# Altium footprint library Robot_2020.PcbLib: 89 footprints (part 5 of 6)
Each footprint in its own frame and in the unit in brackets; x right, y up, seen from the top. Pads: shape width x height; smd on the part's side, far side on the other; paste and mask are expansions set on the pad; w line width, h text height; cw(c..) or ccw(c..) is an arc to the next point about the centre after c.
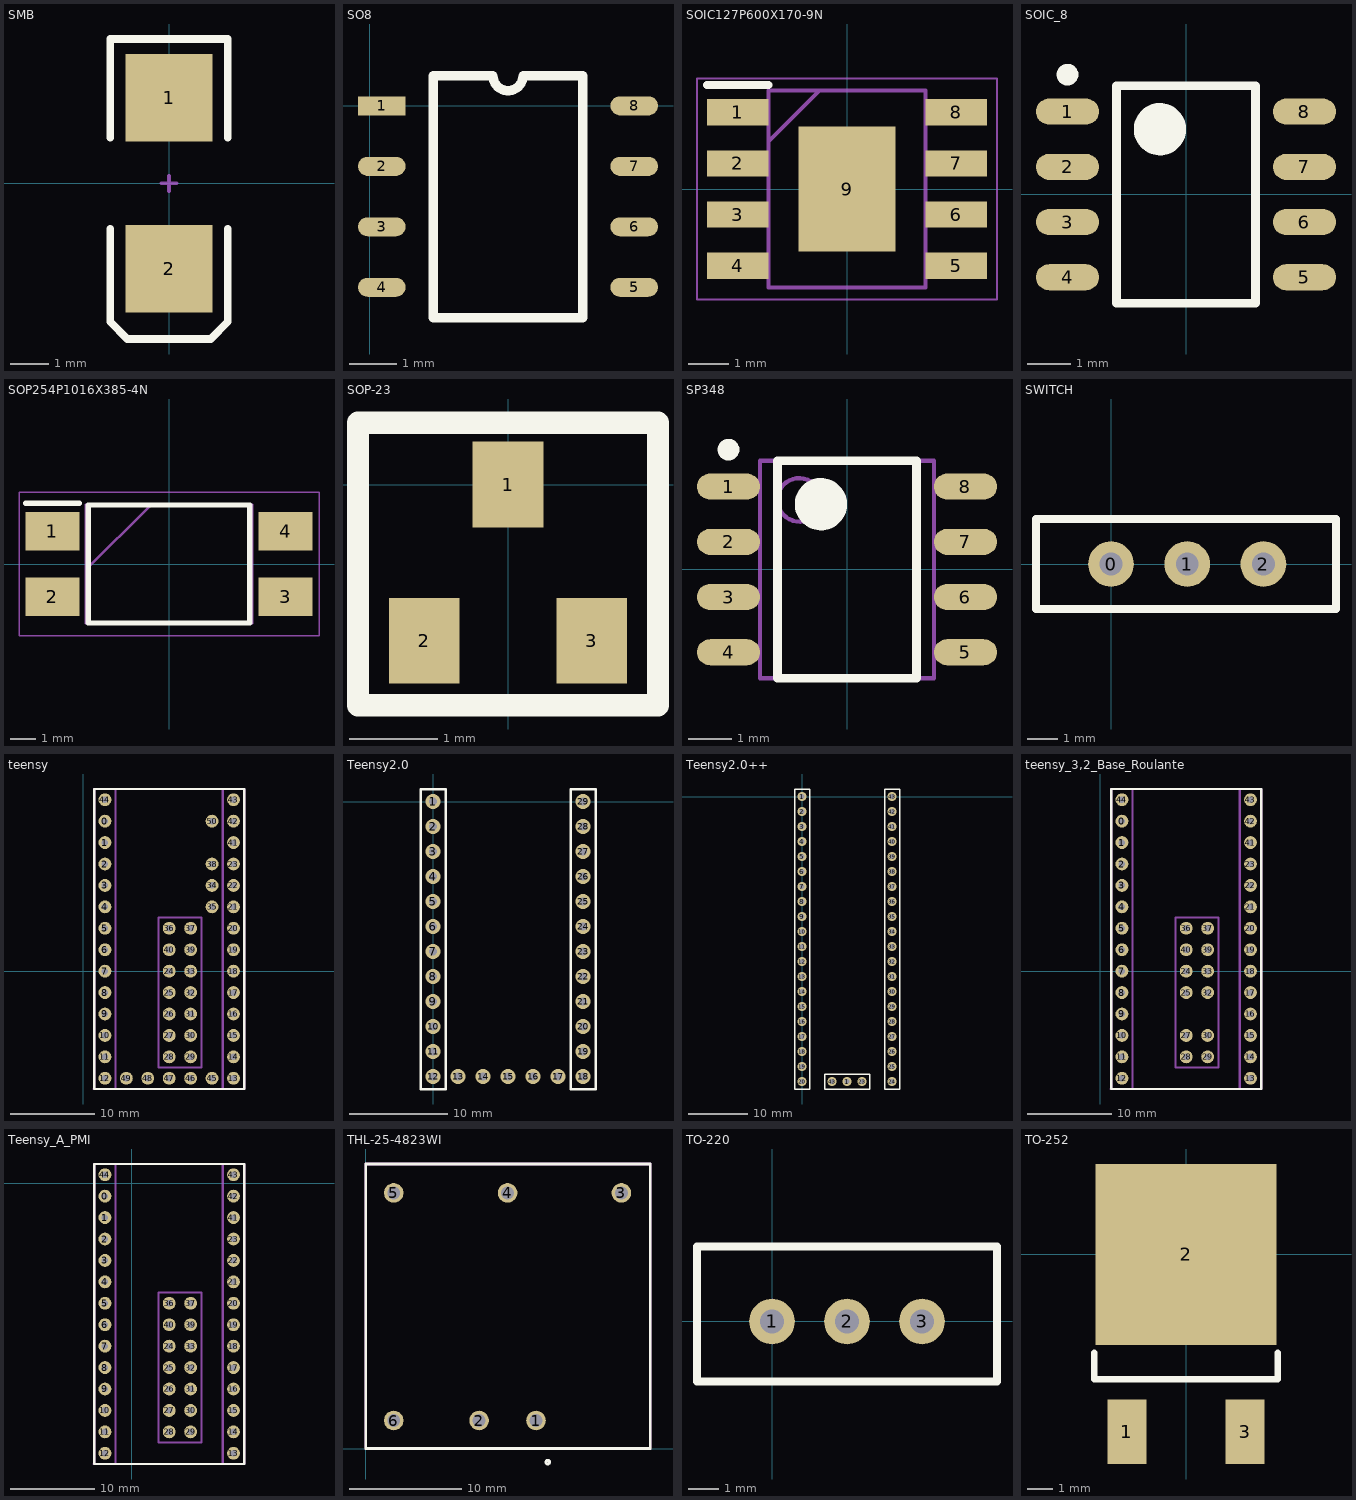
[diagram p4: the footprints below, top view; thin cyan lines are the x and y axes]

## SMB [mm] "SMB Didoe"
pads (2):
  rect 2.3x2.3 smd: 1(0,2.25) 2(0,-2.25)
Top Overlay:
  lines w0.2: -1.55,-1.2 -1.55,-3.65 -1.1,-4.1 1.1,-4.1 1.55,-3.65 1.55,-1.2 ; -1.55,1.2 -1.55,3.8 1.55,3.8 1.55,1.2
Mechanical 1:
  lines w0.1: -0.2,0 0.2,0 ; 0,-0.2 0,0.2
3D body "SMB.step": height 2.2, standoff 0, extent -1.835,-2.673 1.785,2.622

## SO8 [mm]
pads (8):
  rect 1x0.4 smd: 1(0.25,0)
  oval 1x0.4 smd: 2(0.25,-1.27) 3(0.25,-2.54) 4(0.25,-3.81) 5(5.55,-3.81) 6(5.55,-2.54) 7(5.55,-1.27) 8(5.55,0)
Top Overlay:
  lines w0.2: 1.335,-4.445 1.335,0.635 2.582,0.635 ccw(c2.9,0.635) 3.217,0.635 4.465,0.635 4.465,-4.445 1.335,-4.445

## SOIC127P600X170-9N [mm]
pads (9):
  rect 1.525x0.65 smd: 1(-2.712,1.905) 2(-2.712,0.635) 3(-2.712,-0.635) 4(-2.712,-1.905) 5(2.712,-1.905) 6(2.712,-0.635) 7(2.712,0.635) 8(2.712,1.905)
  rect 2.4x3.1 smd: 9(0,0)
Top Overlay:
  lines w0.2: -3.475,2.58 -1.95,2.58
Mechanical 13:
  lines w0.1: -1.95,1.18 -0.68,2.45 ; -1.95,-2.45 -1.95,2.45 1.95,2.45 1.95,-2.45 -1.95,-2.45
Mechanical 15:
  lines w0.05: -3.725,-2.75 -3.725,2.75 3.725,2.75 3.725,-2.75 -3.725,-2.75
3D body "DRV8871DDA.stp": height 1.57, standoff 0, extent -3,-2.45 3,2.45

## SOIC_8 [mm] "SOIC, 8-Leads, Body 4,90x3,90mm, Pitch 1,27mm, IPC Medium Density"
height 1.75
pads (8):
  oval 1.45x0.6 smd: 1(-2.725,1.905) 2(-2.725,0.635) 3(-2.725,-0.635) 4(-2.725,-1.905) 5(2.725,-1.905) 6(2.725,-0.635) 7(2.725,0.635) 8(2.725,1.905)
Top Overlay:
  circle w0.25: c-2.725,2.755 r0.125
  circle w0.6: c-0.6,1.5 r0.3
  lines w0.2: -1.6,-2.5 -1.6,2.5 1.6,2.5 1.6,-2.5 -1.6,-2.5
3D body: height 1.75, standoff 0.1, extent -2,-2.5 2,2.5

## SOP254P1016X385-4N [mm]
pads (4):
  rect 2.1x1.5 smd: 1(-4.55,1.27) 2(-4.55,-1.27) 3(4.55,-1.27) 4(4.55,1.27)
Top Overlay:
  lines w0.2: -5.6,2.37 -3.5,2.37 ; -3.15,-2.3 -3.15,2.3 3.15,2.3 3.15,-2.3 -3.15,-2.3
Mechanical 13:
  lines w0.1: -3.25,-0.24 -0.71,2.3 ; -3.25,-2.3 -3.25,2.3 3.25,2.3 3.25,-2.3 -3.25,-2.3
Mechanical 15:
  lines w0.05: -5.85,-2.8 -5.85,2.8 5.85,2.8 5.85,-2.8 -5.85,-2.8
3D body "FOD817S.stp": height 3.85, standoff 0, extent -5.08,-2.3 5.08,2.3

## SOP-23 [mm]
pads (3):
  rect 0.802x0.972 smd: 1(0,0) 2(-0.95,-1.77) 3(0.95,-1.77)
Top Overlay:
  lines w0.254: -1.7,-2.5 1.7,-2.5 1.7,0.7 -0.2,0.7 -1.7,0.7 -1.7,-2.5

## SP348 [mm] "SOIC, SP348 Transceiver"
height 1.75
pads (8):
  oval 1.45x0.6 smd: 1(-2.725,1.905) 2(-2.725,0.635) 3(-2.725,-0.635) 4(-2.725,-1.905) 5(2.725,-1.905) 6(2.725,-0.635) 7(2.725,0.635) 8(2.725,1.905)
Top Overlay:
  circle w0.6: c-0.6,1.5 r0.3
  circle w0.25: c-2.725,2.755 r0.125
  lines w0.2: -1.6,-2.5 1.6,-2.5 1.6,2.5 -1.6,2.5 -1.6,-2.5
Mechanical 13:
  circle w0.1: c-1.1,1.6 r0.5
  lines w0.1: -2,-2.5 2,-2.5 2,2.5 -2,2.5 -2,-2.5
3D body: height 1.75, standoff 0.1, extent -2,-2.5 2,2.5

## SWITCH [mil] "2 pos switch,  09.03290.01"
height 314.96
pads (3):
  round 60 hole 30: 0(0,0) 1(100,0) 2(200,0)
Top Overlay:
  lines w10: -98.43,-59.06 -98.43,59.06 295.28,59.06 295.28,-59.06 -98.43,-59.06
3D body: height 291.34, standoff 208.66, extent 0,-59.06 78.74,59.06
3D body: height 177.17, standoff 0, extent -98.43,-59.06 295.28,59.06
3D body: height 208.66, standoff 177.17, extent -98.43,-59.06 177.17,59.06

## teensy [mil] "Teensy 3.2"
pads (51):
  round 60 hole 30: 0(100,700) 1(100,600) 2(100,500) 3(100,400) 4(100,300) 5(100,200) 6(100,100) 7(100,0) 8(100,-100) 9(100,-200) 10(100,-300) 11(100,-400) 12(100,-500) 13(700,-500) 14(700,-400) 15(700,-300) 16(700,-200) 17(700,-100) 18(700,0) 19(700,100) 20(700,200) 21(700,300) 22(700,400) 23(700,500) 24(400,0) 25(400,-100) 26(400,-200) 27(400,-300) 28(400,-400) 29(500,-400) 30(500,-300) 31(500,-200) 32(500,-100) 33(500,0) 34(600,400) 35(600,300) 36(400,200) 37(500,200) 38(600,500) 39(500,100) 40(400,100) 41(700,600) 42(700,700) 43(700,800) 44(100,800) 45(600,-500) 46(500,-500) 47(400,-500) 48(300,-500) 49(200,-500) 50(600,700)
Top Overlay:
  lines w10: 50,-550 50,850 750,850 750,-550 50,-550
Mechanical 1:
  lines w10: 48.14,-550 50,-548.14 50,850 150,850 150,-550 48.14,-550 ; 350,-450 350,250 550,250 550,-450 350,-450 ; 650,-550 650,850 750,850 750,-550 650,-550
3D body "Teensy_3-2.stp": height 504.76, standoff 253.15, extent 48.14,-550 751.86,906.68
3D body: height 331.89, standoff 0, extent 650.02,-549.98 749.98,849.98
3D body: height 331.89, standoff 0, extent 48.09,-550.02 150.02,850.02
3D body: height 331.89, standoff 0, extent 350.02,-449.98 549.98,249.98

## Teensy2.0 [mil] "Teensy2.0 with minimal"
pads (29):
  round 60 hole 31.5: 1(0,0) 2(0,-100) 3(0,-200) 4(0,-300) 5(0,-400) 6(0,-500) 7(0,-600) 8(0,-700) 9(0,-800) 10(0,-900) 11(0,-1000) 12(0,-1100) 13(100,-1100) 14(200,-1100) 15(300,-1100) 16(400,-1100) 17(500,-1100) 18(600,-1100) 19(600,-1000) 20(600,-900) 21(600,-800) 22(600,-700) 23(600,-600) 24(600,-500) 25(600,-400) 26(600,-300) 27(600,-200) 28(600,-100) 29(600,0)
Top Overlay:
  lines w10: -50,-1150 50,-1150 50,50 -50,50 -50,-1150 ; 550,-1150 550,50 650,50 650,-1150 550,-1150
3D body: height 255.91, standoff 0, extent -50,-1150 50,50
3D body: height 255.91, standoff 0, extent 550,-1150 650,50
3D body: height 255.91, standoff 0, extent 50,-1150 550,-1050

## Teensy2.0++ [mil]
pads (43):
  round 60 hole 31.5: 1(0,0) 1(300,-1900) 2(0,-100) 3(0,-200) 4(0,-300) 5(0,-400) 6(0,-500) 7(0,-600) 8(0,-700) 9(0,-800) 10(0,-900) 11(0,-1000) 12(0,-1100) 13(0,-1200) 14(0,-1300) 15(0,-1400) 16(0,-1500) 17(0,-1600) 18(0,-1700) 19(0,-1800) 20(0,-1900) 23(400,-1900) 24(600,-1900) 25(600,-1800) 26(600,-1700) 27(600,-1600) 28(600,-1500) 29(600,-1400) 30(600,-1300) 31(600,-1200) 32(600,-1100) 33(600,-1000) 34(600,-900) 35(600,-800) 36(600,-700) 37(600,-600) 38(600,-500) 39(600,-400) 40(600,-300) 41(600,-200) 42(600,-100) 43(200,-1900) 43(600,0)
Top Overlay:
  lines w10: -50,-1950 50,-1950 50,50 -50,50 -50,-1950 ; 150,-1950 150,-1850 450,-1850 450,-1950 150,-1950 ; 550,-1950 550,50 650,50 650,-1950 550,-1950
3D body: height 255.91, standoff 0, extent 150,-1950 450,-1850
3D body: height 255.91, standoff 0, extent 550,-1950 650,50
3D body: height 255.91, standoff 0, extent -50,-1950 50,50
3D body "Teensy++2.0.STEP": height 572.84, standoff 31.5, extent -50,-1951.97 650,51.97

## teensy_3,2_Base_Roulante [mil] "Teensy 3.2"
pads (40):
  round 60 hole 30: 0(100,700) 1(100,600) 2(100,500) 3(100,400) 4(100,300) 5(100,200) 6(100,100) 7(100,0) 8(100,-100) 9(100,-200) 10(100,-300) 11(100,-400) 12(100,-500) 13(700,-500) 14(700,-400) 15(700,-300) 16(700,-200) 17(700,-100) 18(700,0) 19(700,100) 20(700,200) 21(700,300) 22(700,400) 23(700,500) 24(400,0) 25(400,-100) 27(400,-300) 28(400,-400) 29(500,-400) 30(500,-300) 32(500,-100) 33(500,0) 36(400,200) 37(500,200) 39(500,100) 40(400,100) 41(700,600) 42(700,700) 43(700,800) 44(100,800)
Top Overlay:
  lines w10: 50,-550 50,850 750,850 750,-550 50,-550
Mechanical 1:
  lines w10: 48.14,-550 50,-548.14 50,850 150,850 150,-550 48.14,-550 ; 350,-450 350,250 550,250 550,-450 350,-450 ; 650,-550 650,850 750,850 750,-550 650,-550
3D body "Teensy_3-2.stp": height 504.76, standoff 253.15, extent 48.14,-550 751.86,906.68
3D body: height 331.89, standoff 0, extent 650.02,-549.98 749.98,849.98
3D body: height 331.89, standoff 0, extent 48.09,-550.02 150.02,850.02
3D body: height 331.89, standoff 0, extent 350.02,-449.98 549.98,249.98

## Teensy_A_PMI [mil]
pads (42):
  round 60 hole 30: 0(-124.41,-59.84) 1(-124.41,-159.84) 2(-124.41,-259.84) 3(-124.41,-359.84) 4(-124.41,-459.84) 5(-124.41,-559.84) 6(-124.41,-659.84) 7(-124.41,-759.84) 8(-124.41,-859.84) 9(-124.41,-959.84) 10(-124.41,-1059.84) 11(-124.41,-1159.84) 12(-124.41,-1259.84) 13(475.59,-1259.84) 14(475.59,-1159.84) 15(475.59,-1059.84) 16(475.59,-959.84) 17(475.59,-859.84) 18(475.59,-759.84) 19(475.59,-659.84) 20(475.59,-559.84) 21(475.59,-459.84) 22(475.59,-359.84) 23(475.59,-259.84) 24(175.59,-759.84) 25(175.59,-859.84) 26(175.59,-959.84) 27(175.59,-1059.84) 28(175.59,-1159.84) 29(275.59,-1159.84) 30(275.59,-1059.84) 31(275.59,-959.84) 32(275.59,-859.84) 33(275.59,-759.84) 36(175.59,-559.84) 37(275.59,-559.84) 39(275.59,-659.84) 40(175.59,-659.84) 41(475.59,-159.84) 42(475.59,-59.84) 43(475.59,40.16) 44(-124.41,40.16)
Top Overlay:
  lines w10: -174.41,-1309.84 -174.41,90.16 525.59,90.16 525.59,-1309.84 -174.41,-1309.84
Mechanical 1:
  lines w10: -176.27,-1309.84 -174.41,-1307.98 -174.41,90.16 -74.41,90.16 -74.41,-1309.84 -176.27,-1309.84 ; 125.59,-1209.84 125.59,-509.84 325.59,-509.84 325.59,-1209.84 125.59,-1209.84 ; 425.59,-1309.84 425.59,90.16 525.59,90.16 525.59,-1309.84 425.59,-1309.84
3D body "Teensy_3-2.stp": height 504.76, standoff 253.15, extent -176.27,-1309.84 527.45,146.83
3D body: height 331.89, standoff 0, extent 425.61,-1309.82 525.57,90.14
3D body: height 331.89, standoff 0, extent -176.32,-1309.86 -74.39,90.18
3D body: height 331.89, standoff 0, extent 125.61,-1209.82 325.57,-509.86

## THL-25-4823WI [mm]
pads (6):
  round 1.75 hole 1.15: 1(15.2,2.5) 2(10.12,2.5) 3(22.82,22.82) 4(12.66,22.82) 5(2.5,22.82) 6(2.5,2.5)
Top Overlay:
  circle w0.254: c16.253,-1.215 r0.166
  lines w0.254: 0,0 25.4,0 25.4,25.4 0,25.4 0,0
Mechanical 13:
  lines w0.254: 0,0 0,25.4 25.4,25.4 25.4,0 0,0
3D body "THL_25-2411.stp": height 10.1, standoff -6.06, extent 0,-0.05 25.4,25.35

## TO-220 [mil]
pads (3):
  round 60 hole 31.5: 1(0,0) 2(98.43,0) 3(196.85,0)
Top Overlay:
  lines w10: -98.43,-78.74 -98.43,98.43 295.28,98.43 295.28,-78.74 -98.43,-78.74

## TO-252 [mm] "TO-252 standard package"
pads (3):
  rect 1.5x2.5 smd: 1(-2.286,-6.858) 3(2.286,-6.858)
  rect 7x7 smd: 2(0,0)
Top Overlay:
  lines w0.254: -3.556,-3.81 -3.556,-4.826 3.556,-4.826 3.556,-3.81
3D body "TO252.STEP": height 2.41, standoff 0.01, extent -3.25,-7.112 3.25,1.988